# Altium integrated library TI Power Management Lighting and Display.IntLib: 745 symbols (part 14 of 48)
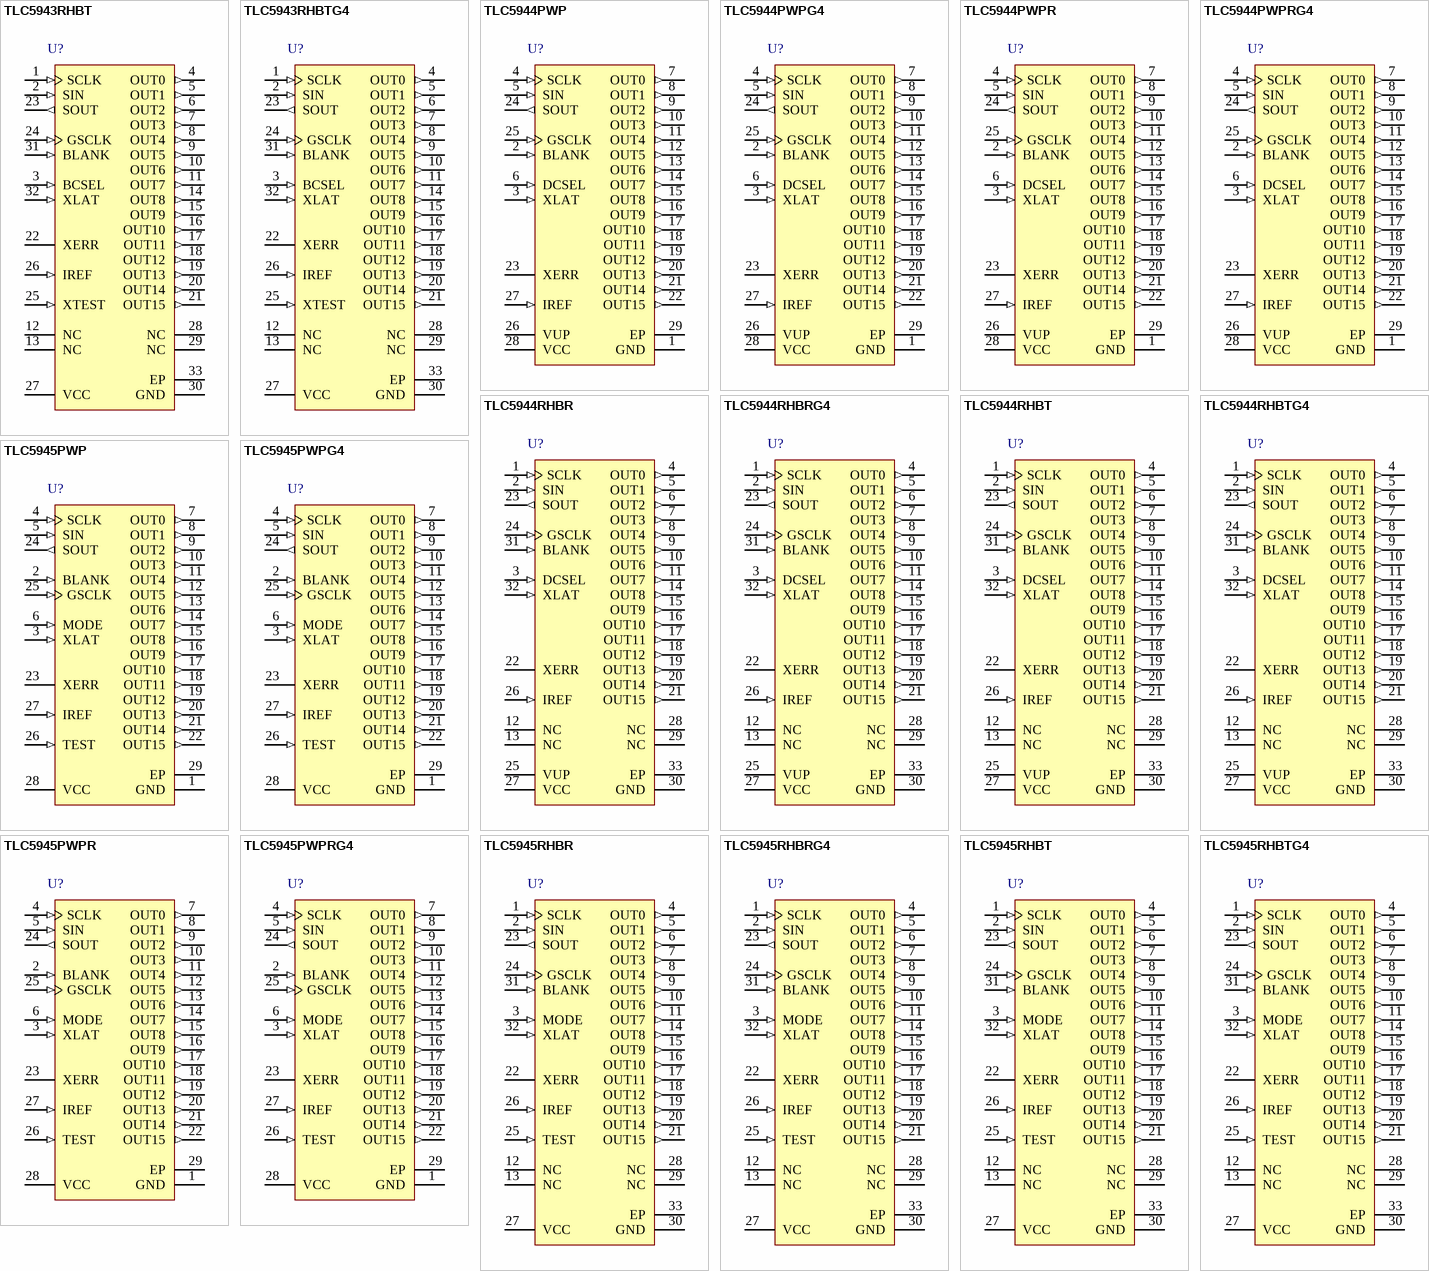
[diagram p44: symbols TLC5943RHBT to TLC5945RHBTG4]

## TLC5943RHBT
designator U?
16-Bit ES-PWM with 7-Bit Device Level Brightness Control, 3 to 5.5 V, -40 to 85 degC, 32-pin QFN (RHB32), Green (RoHS & no Sb/Br); Manufacturer: Texas Instruments; PartNumber: TLC5943RHBT; Rating: Catalog; SubFamily: LED Driver; Vin(Max)(V): 5.5; Vin(Min)(V): 3; DatasheetVersion: SBVS101; PackageVersion: 4204326/D; PackageReference: RHB32-3450X3450TP; PackageDescription: 32-Pin Plastic Flat Pack, Body 5 x 5 mm, Pitch 0.5 mm; Supplier 1: Digi-Key; Supplier Part Number 1: 296-32362-2-ND; Supplier 2: Digi-Key; Supplier Part Number 2: 296-32362-1-ND; Supplier 3: Digi-Key; Supplier Part Number 3: 296-32362-6-ND; Supplier 4: Mouser; Supplier Part Number 4: 595-TLC5943RHBT; Eco-Plan: Green (RoHS & no Sb/Br); Mounting Technology: Surface Mount; Code_JEDEC: MO-220; ComponentLink1Description: Manufacturer URL; ComponentLink1URL: http://www.ti.com/; ComponentLink2Description: Datasheet; ComponentLink2URL: http://www.ti.com/general/docs/lit/getliterature.tsp?genericPartNumber=TLC5943&fileType=pdf; ComponentLink3Description: Package Specification; ComponentLink3URL: http://www.ti.com/lit/ml/mpqf130c/mpqf130c.pdf
footprint TI-RHB32-3450X3450TP_V (QFN, 32-Leads, Body 5x5mm, Pitch 0.5mm, Thermal Pad 3.45x3.45mm)
pins: 1 SCLK (in) "Serial data shift clock for GS shift register and BC shift register. Schmitt buffer input. The shift register is selected by BCSEL. Data present on the SIN pin are shifted into the shift register selected by BCSEL with the (See Datasheet)", 2 SIN (in) "Serial data input for grayscale and brightness control data. Schmitt buffer input.", 3 BCSEL (in) "Shift register and data latch select. Schmitt buffer input. When BCSEL is low, Grayscale shift register and first data latch are selected. When BCSEL is high, Brightness Control shift register and first data latch are (See Datasheet)", 4 OUT0 (out) "Constant current output.", 5 OUT1 (out) "Constant current output.", 6 OUT2 (out) "Constant current output.", 7 OUT3 (out) "Constant current output.", 8 OUT4 (out) "Constant current output.", 9 OUT5 (out) "Constant current output.", 10 OUT6 (out) "Constant current output.", 11 OUT7 (out) "Constant current output.", 12 NC "No internal connection", 13 NC "No internal connection", 14 OUT8 (out) "Constant current output.", 15 OUT9 (out) "Constant current output.", 16 OUT10 (out) "Constant current output.", 17 OUT11 (out) "Constant current output.", 18 OUT12 (out) "Constant current output.", 19 OUT13 (out) "Constant current output.", 20 OUT14 (out) "Constant current output.", 21 OUT15 (out) "Constant current output.", 22 XERR (hiz) "Error output. Open-drain output. XERR goes low when LOD or TEF is detected.", 23 SOUT (out) "Serial data output. This output is connected to Grayscale/Status Information shift register or Brightness Control shift register. The connected register is selected by BCSEL.", 24 GSCLK (in) "Reference clock for Grayscale PWM control. Schmitt buffer input. If BLANK is low, then each rising edge of GSCLK increments the grayscale counter for PWM control.", 25 XTEST (in) "Factory test pin. XTEST must be connected to VCC or GND.", 26 IREF (in) "Constant current value setting. OUT0 through OUT15 sink constant current is set to desired value by connecting an external resistor between IREF and GND.", 27 VCC (power) "Power-supply voltage", 28 NC "No internal connection", 29 NC "No internal connection", 30 GND (power) "Power ground", 31 BLANK (in) "Blank (all constant current outputs off). Schmitt buffer input. When BLANK is high, all constant current outputs (OUT0 through OUT15) are forced off, the Grayscale counter is reset to '0', and the Grayscale PWM timing (See Datasheet)", 32 XLAT (in) "Data in the Grayscale and Brightness shift register are moved to the respective first data latch with a low-to-high transition of this pin.", 33 EP "Exposed Thermal Pad"

## TLC5943RHBTG4
designator U?
16-Bit ES-PWM with 7-Bit Device Level Brightness Control, 3 to 5.5 V, -40 to 85 degC, 32-pin QFN (RHB32), Green (RoHS & no Sb/Br); Manufacturer: Texas Instruments; PartNumber: TLC5943RHBTG4; Rating: Catalog; SubFamily: LED Driver; Vin(Max)(V): 5.5; Vin(Min)(V): 3; DatasheetVersion: SBVS101; PackageVersion: 4204326/D; PackageReference: RHB32-3450X3450TP; PackageDescription: 32-Pin Plastic Flat Pack, Body 5 x 5 mm, Pitch 0.5 mm; Supplier 1: Digi-Key; Supplier Part Number 1: TLC5943RHBTG4-ND; Supplier 2: Mouser; Supplier Part Number 2: 595-TLC5943RHBTG4; Eco-Plan: Green (RoHS & no Sb/Br); Mounting Technology: Surface Mount; Code_JEDEC: MO-220; ComponentLink1Description: Manufacturer URL; ComponentLink1URL: http://www.ti.com/; ComponentLink2Description: Datasheet; ComponentLink2URL: http://www.ti.com/general/docs/lit/getliterature.tsp?genericPartNumber=TLC5943&fileType=pdf; ComponentLink3Description: Package Specification; ComponentLink3URL: http://www.ti.com/lit/ml/mpqf130c/mpqf130c.pdf
footprint TI-RHB32-3450X3450TP_V (QFN, 32-Leads, Body 5x5mm, Pitch 0.5mm, Thermal Pad 3.45x3.45mm)
pins: 1 SCLK (in) "Serial data shift clock for GS shift register and BC shift register. Schmitt buffer input. The shift register is selected by BCSEL. Data present on the SIN pin are shifted into the shift register selected by BCSEL with the (See Datasheet)", 2 SIN (in) "Serial data input for grayscale and brightness control data. Schmitt buffer input.", 3 BCSEL (in) "Shift register and data latch select. Schmitt buffer input. When BCSEL is low, Grayscale shift register and first data latch are selected. When BCSEL is high, Brightness Control shift register and first data latch are (See Datasheet)", 4 OUT0 (out) "Constant current output.", 5 OUT1 (out) "Constant current output.", 6 OUT2 (out) "Constant current output.", 7 OUT3 (out) "Constant current output.", 8 OUT4 (out) "Constant current output.", 9 OUT5 (out) "Constant current output.", 10 OUT6 (out) "Constant current output.", 11 OUT7 (out) "Constant current output.", 12 NC "No internal connection", 13 NC "No internal connection", 14 OUT8 (out) "Constant current output.", 15 OUT9 (out) "Constant current output.", 16 OUT10 (out) "Constant current output.", 17 OUT11 (out) "Constant current output.", 18 OUT12 (out) "Constant current output.", 19 OUT13 (out) "Constant current output.", 20 OUT14 (out) "Constant current output.", 21 OUT15 (out) "Constant current output.", 22 XERR (hiz) "Error output. Open-drain output. XERR goes low when LOD or TEF is detected.", 23 SOUT (out) "Serial data output. This output is connected to Grayscale/Status Information shift register or Brightness Control shift register. The connected register is selected by BCSEL.", 24 GSCLK (in) "Reference clock for Grayscale PWM control. Schmitt buffer input. If BLANK is low, then each rising edge of GSCLK increments the grayscale counter for PWM control.", 25 XTEST (in) "Factory test pin. XTEST must be connected to VCC or GND.", 26 IREF (in) "Constant current value setting. OUT0 through OUT15 sink constant current is set to desired value by connecting an external resistor between IREF and GND.", 27 VCC (power) "Power-supply voltage", 28 NC "No internal connection", 29 NC "No internal connection", 30 GND (power) "Power ground", 31 BLANK (in) "Blank (all constant current outputs off). Schmitt buffer input. When BLANK is high, all constant current outputs (OUT0 through OUT15) are forced off, the Grayscale counter is reset to '0', and the Grayscale PWM timing (See Datasheet)", 32 XLAT (in) "Data in the Grayscale and Brightness shift register are moved to the respective first data latch with a low-to-high transition of this pin.", 33 EP "Exposed Thermal Pad"

## TLC5944PWP
designator U?
16-Channel, 12-Bit PWM LED Driver with 6-Bit DOT Correction and Pre-Charge FET, 3 to 5.5 V, -40 to 85 degC, 28-pin SOP (PWP28), Green (RoHS & no Sb/Br); Manufacturer: Texas Instruments; PartNumber: TLC5944PWP; Rating: Catalog; Vin(Max)(V): 5.5; Vin(Min)(V): 3; DatasheetVersion: SBVS112A; PackageVersion: 4073225-6/I; PackageReference: PWP28-5720X1950TP; PackageDescription: 28-Pin Plastic Small Outline, Body 4.4 x 9.7 mm, Pitch 0.65 mm; Supplier 1: Digi-Key; Supplier Part Number 1: TLC5944PWP-ND; Supplier 2: Newark; Supplier Part Number 2: 03P5008; Supplier 3: Mouser; Supplier Part Number 3: 595-TLC5944PWP; Eco-Plan: Green (RoHS & no Sb/Br); SubFamily: LED Driver; Mounting Technology: Surface Mount; Code_JEDEC: MO-153; ComponentLink1Description: Manufacturer URL; ComponentLink1URL: http://www.ti.com/; ComponentLink2Description: Datasheet; ComponentLink2URL: http://www.ti.com/general/docs/lit/getliterature.tsp?genericPartNumber=TLC5944&fileType=pdf; ComponentLink3Description: Package Specification; ComponentLink3URL: http://www.ti.com/litv/pdf/mpds373
footprint TI-PWP28-5720X1950TP_N (SOP, 28-Leads, Body 9.7x4.4mm, Pitch 0.65mm, Thermal Pad 5.72 x 1.95mm, IPC Medium Density)
footprint TI-PWP28-5720X1950TP_L (SOP, 28-Leads, Body 9.7x4.4mm, Pitch 0.65mm, Thermal Pad 5.72 x 1.95mm, IPC High Density)
footprint TI-PWP28-5720X1950TP_M (SOP, 28-Leads, Body 9.7x4.4mm, Pitch 0.65mm, Thermal Pad 5.72 x 1.95mm, IPC Low Density)
pins: 1 GND (power) "Power ground", 2 BLANK (in) "Blank (all constant current outputs off). When BLANK is high, all constant current outputs (OUT0 through OUT15) are forced off, the grayscale counter is reset to '0', and the grayscale PWM timing controller is initialized. (See Datasheet)", 3 XLAT (in) "Data in the GS and DC shift register are moved to the respective data latch with a low-to-high transition of this pin.", 4 SCLK (in) "Serial data shift clock for GS shift register and DC shift register. Schmitt buffer input. The shift register is selected by the DCSEL pin. Data present on the SIN pin are shifted into the shift register selected by DCSEL (See Datasheet)", 5 SIN (in) "Serial data input for grayscale and dot correction.", 6 DCSEL (in) "Shift register and data latch select. When DCSEL is low, SCLK/XLAT/SOUT are connected to the GS shift register and data latch. When DCSEL is high, SCLK/XLAT/SOUT are connected to the DC shift register and data latch. DCSEL (See Datasheet)", 7 OUT0 (out) "Constant current output", 8 OUT1 (out) "Constant current output", 9 OUT2 (out) "Constant current output", 10 OUT3 (out) "Constant current output", 11 OUT4 (out) "Constant current output", 12 OUT5 (out) "Constant current output", 13 OUT6 (out) "Constant current output", 14 OUT7 (out) "Constant current output", 15 OUT8 (out) "Constant current output", 16 OUT9 (out) "Constant current output", 17 OUT10 (out) "Constant current output", 18 OUT11 (out) "Constant current output", 19 OUT12 (out) "Constant current output", 20 OUT13 (out) "Constant current output", 21 OUT14 (out) "Constant current output", 22 OUT15 (out) "Constant current output", 23 XERR (hiz) "Error output. Open-drain output. XERR goes low when LOD or TEF are set. XERR is in high impedance when error free.", 24 SOUT (out) "Serial data output for GS, DC, and status information data (SID). This output is connected to the MSB of the shift register selected by DCSEL.", 25 GSCLK (in) "Reference clock for grayscale PWM control. If BLANK is low, then each rising edge of GSCLK increments the grayscale counter for PWM control.", 26 VUP (power) "Pre-charge FET power supply", 27 IREF (in) "Constant current value setting. OUT0 through OUT15 sink constant current is set to the desired value by connecting an external resistor between IREF and GND.", 28 VCC (power) "Power-supply voltage", 29 EP "Thermal PAD."

## TLC5944PWPG4
designator U?
16-Channel, 12-Bit PWM LED Driver with 6-Bit DOT Correction and Pre-Charge FET, 3 to 5.5 V, -40 to 85 degC, 28-pin SOP (PWP28), Green (RoHS & no Sb/Br); Manufacturer: Texas Instruments; PartNumber: TLC5944PWPG4; Rating: Catalog; Vin(Max)(V): 5.5; Vin(Min)(V): 3; DatasheetVersion: SBVS112A; PackageVersion: 4073225-6/I; PackageReference: PWP28-5720X1950TP; PackageDescription: 28-Pin Plastic Small Outline, Body 4.4 x 9.7 mm, Pitch 0.65 mm; Supplier 1: Digi-Key; Supplier Part Number 1: TLC5944PWPG4-ND; Supplier 2: Mouser; Supplier Part Number 2: 595-TLC5944PWPG4; Eco-Plan: Green (RoHS & no Sb/Br); SubFamily: LED Driver; Mounting Technology: Surface Mount; Code_JEDEC: MO-153; ComponentLink1Description: Manufacturer URL; ComponentLink1URL: http://www.ti.com/; ComponentLink2Description: Datasheet; ComponentLink2URL: http://www.ti.com/general/docs/lit/getliterature.tsp?genericPartNumber=TLC5944&fileType=pdf; ComponentLink3Description: Package Specification; ComponentLink3URL: http://www.ti.com/litv/pdf/mpds373
footprint TI-PWP28-5720X1950TP_N (SOP, 28-Leads, Body 9.7x4.4mm, Pitch 0.65mm, Thermal Pad 5.72 x 1.95mm, IPC Medium Density)
footprint TI-PWP28-5720X1950TP_L (SOP, 28-Leads, Body 9.7x4.4mm, Pitch 0.65mm, Thermal Pad 5.72 x 1.95mm, IPC High Density)
footprint TI-PWP28-5720X1950TP_M (SOP, 28-Leads, Body 9.7x4.4mm, Pitch 0.65mm, Thermal Pad 5.72 x 1.95mm, IPC Low Density)
pins: 1 GND (power) "Power ground", 2 BLANK (in) "Blank (all constant current outputs off). When BLANK is high, all constant current outputs (OUT0 through OUT15) are forced off, the grayscale counter is reset to '0', and the grayscale PWM timing controller is initialized. (See Datasheet)", 3 XLAT (in) "Data in the GS and DC shift register are moved to the respective data latch with a low-to-high transition of this pin.", 4 SCLK (in) "Serial data shift clock for GS shift register and DC shift register. Schmitt buffer input. The shift register is selected by the DCSEL pin. Data present on the SIN pin are shifted into the shift register selected by DCSEL (See Datasheet)", 5 SIN (in) "Serial data input for grayscale and dot correction.", 6 DCSEL (in) "Shift register and data latch select. When DCSEL is low, SCLK/XLAT/SOUT are connected to the GS shift register and data latch. When DCSEL is high, SCLK/XLAT/SOUT are connected to the DC shift register and data latch. DCSEL (See Datasheet)", 7 OUT0 (out) "Constant current output", 8 OUT1 (out) "Constant current output", 9 OUT2 (out) "Constant current output", 10 OUT3 (out) "Constant current output", 11 OUT4 (out) "Constant current output", 12 OUT5 (out) "Constant current output", 13 OUT6 (out) "Constant current output", 14 OUT7 (out) "Constant current output", 15 OUT8 (out) "Constant current output", 16 OUT9 (out) "Constant current output", 17 OUT10 (out) "Constant current output", 18 OUT11 (out) "Constant current output", 19 OUT12 (out) "Constant current output", 20 OUT13 (out) "Constant current output", 21 OUT14 (out) "Constant current output", 22 OUT15 (out) "Constant current output", 23 XERR (hiz) "Error output. Open-drain output. XERR goes low when LOD or TEF are set. XERR is in high impedance when error free.", 24 SOUT (out) "Serial data output for GS, DC, and status information data (SID). This output is connected to the MSB of the shift register selected by DCSEL.", 25 GSCLK (in) "Reference clock for grayscale PWM control. If BLANK is low, then each rising edge of GSCLK increments the grayscale counter for PWM control.", 26 VUP (power) "Pre-charge FET power supply", 27 IREF (in) "Constant current value setting. OUT0 through OUT15 sink constant current is set to the desired value by connecting an external resistor between IREF and GND.", 28 VCC (power) "Power-supply voltage", 29 EP "Thermal PAD."

## TLC5944PWPR
designator U?
16-Channel, 12-Bit PWM LED Driver with 6-Bit DOT Correction and Pre-Charge FET, 3 to 5.5 V, -40 to 85 degC, 28-pin SOP (PWP28), Green (RoHS & no Sb/Br); Manufacturer: Texas Instruments; PartNumber: TLC5944PWPR; Rating: Catalog; Vin(Max)(V): 5.5; Vin(Min)(V): 3; DatasheetVersion: SBVS112A; PackageVersion: 4073225-6/I; PackageReference: PWP28-5720X1950TP; PackageDescription: 28-Pin Plastic Small Outline, Body 4.4 x 9.7 mm, Pitch 0.65 mm; Supplier 1: Digi-Key; Supplier Part Number 1: 296-23537-2-ND; Supplier 2: Digi-Key; Supplier Part Number 2: 296-23537-1-ND; Supplier 3: Digi-Key; Supplier Part Number 3: 296-23537-6-ND; Supplier 4: Newark; Supplier Part Number 4: 14N4061; Supplier 5: Mouser; Supplier Part Number 5: 595-TLC5944PWPR; Eco-Plan: Green (RoHS & no Sb/Br); SubFamily: LED Driver; Mounting Technology: Surface Mount; Code_JEDEC: MO-153; ComponentLink1Description: Manufacturer URL; ComponentLink1URL: http://www.ti.com/; ComponentLink2Description: Datasheet; ComponentLink2URL: http://www.ti.com/general/docs/lit/getliterature.tsp?genericPartNumber=TLC5944&fileType=pdf; ComponentLink3Description: Package Specification; ComponentLink3URL: http://www.ti.com/litv/pdf/mpds373
footprint TI-PWP28-5720X1950TP_N (SOP, 28-Leads, Body 9.7x4.4mm, Pitch 0.65mm, Thermal Pad 5.72 x 1.95mm, IPC Medium Density)
footprint TI-PWP28-5720X1950TP_L (SOP, 28-Leads, Body 9.7x4.4mm, Pitch 0.65mm, Thermal Pad 5.72 x 1.95mm, IPC High Density)
footprint TI-PWP28-5720X1950TP_M (SOP, 28-Leads, Body 9.7x4.4mm, Pitch 0.65mm, Thermal Pad 5.72 x 1.95mm, IPC Low Density)
pins: 1 GND (power) "Power ground", 2 BLANK (in) "Blank (all constant current outputs off). When BLANK is high, all constant current outputs (OUT0 through OUT15) are forced off, the grayscale counter is reset to '0', and the grayscale PWM timing controller is initialized. (See Datasheet)", 3 XLAT (in) "Data in the GS and DC shift register are moved to the respective data latch with a low-to-high transition of this pin.", 4 SCLK (in) "Serial data shift clock for GS shift register and DC shift register. Schmitt buffer input. The shift register is selected by the DCSEL pin. Data present on the SIN pin are shifted into the shift register selected by DCSEL (See Datasheet)", 5 SIN (in) "Serial data input for grayscale and dot correction.", 6 DCSEL (in) "Shift register and data latch select. When DCSEL is low, SCLK/XLAT/SOUT are connected to the GS shift register and data latch. When DCSEL is high, SCLK/XLAT/SOUT are connected to the DC shift register and data latch. DCSEL (See Datasheet)", 7 OUT0 (out) "Constant current output", 8 OUT1 (out) "Constant current output", 9 OUT2 (out) "Constant current output", 10 OUT3 (out) "Constant current output", 11 OUT4 (out) "Constant current output", 12 OUT5 (out) "Constant current output", 13 OUT6 (out) "Constant current output", 14 OUT7 (out) "Constant current output", 15 OUT8 (out) "Constant current output", 16 OUT9 (out) "Constant current output", 17 OUT10 (out) "Constant current output", 18 OUT11 (out) "Constant current output", 19 OUT12 (out) "Constant current output", 20 OUT13 (out) "Constant current output", 21 OUT14 (out) "Constant current output", 22 OUT15 (out) "Constant current output", 23 XERR (hiz) "Error output. Open-drain output. XERR goes low when LOD or TEF are set. XERR is in high impedance when error free.", 24 SOUT (out) "Serial data output for GS, DC, and status information data (SID). This output is connected to the MSB of the shift register selected by DCSEL.", 25 GSCLK (in) "Reference clock for grayscale PWM control. If BLANK is low, then each rising edge of GSCLK increments the grayscale counter for PWM control.", 26 VUP (power) "Pre-charge FET power supply", 27 IREF (in) "Constant current value setting. OUT0 through OUT15 sink constant current is set to the desired value by connecting an external resistor between IREF and GND.", 28 VCC (power) "Power-supply voltage", 29 EP "Thermal PAD."

## TLC5944PWPRG4
designator U?
16-Channel, 12-Bit PWM LED Driver with 6-Bit DOT Correction and Pre-Charge FET, 3 to 5.5 V, -40 to 85 degC, 28-pin SOP (PWP28), Green (RoHS & no Sb/Br); Manufacturer: Texas Instruments; PartNumber: TLC5944PWPRG4; Rating: Catalog; Vin(Max)(V): 5.5; Vin(Min)(V): 3; DatasheetVersion: SBVS112A; PackageVersion: 4073225-6/I; PackageReference: PWP28-5720X1950TP; PackageDescription: 28-Pin Plastic Small Outline, Body 4.4 x 9.7 mm, Pitch 0.65 mm; Supplier 1: Digi-Key; Supplier Part Number 1: TLC5944PWPRG4-ND; Supplier 2: Mouser; Supplier Part Number 2: 595-TLC5944PWPRG4; Eco-Plan: Green (RoHS & no Sb/Br); SubFamily: LED Driver; Mounting Technology: Surface Mount; Code_JEDEC: MO-153; ComponentLink1Description: Manufacturer URL; ComponentLink1URL: http://www.ti.com/; ComponentLink2Description: Datasheet; ComponentLink2URL: http://www.ti.com/general/docs/lit/getliterature.tsp?genericPartNumber=TLC5944&fileType=pdf; ComponentLink3Description: Package Specification; ComponentLink3URL: http://www.ti.com/litv/pdf/mpds373
footprint TI-PWP28-5720X1950TP_N (SOP, 28-Leads, Body 9.7x4.4mm, Pitch 0.65mm, Thermal Pad 5.72 x 1.95mm, IPC Medium Density)
footprint TI-PWP28-5720X1950TP_L (SOP, 28-Leads, Body 9.7x4.4mm, Pitch 0.65mm, Thermal Pad 5.72 x 1.95mm, IPC High Density)
footprint TI-PWP28-5720X1950TP_M (SOP, 28-Leads, Body 9.7x4.4mm, Pitch 0.65mm, Thermal Pad 5.72 x 1.95mm, IPC Low Density)
pins: 1 GND (power) "Power ground", 2 BLANK (in) "Blank (all constant current outputs off). When BLANK is high, all constant current outputs (OUT0 through OUT15) are forced off, the grayscale counter is reset to '0', and the grayscale PWM timing controller is initialized. (See Datasheet)", 3 XLAT (in) "Data in the GS and DC shift register are moved to the respective data latch with a low-to-high transition of this pin.", 4 SCLK (in) "Serial data shift clock for GS shift register and DC shift register. Schmitt buffer input. The shift register is selected by the DCSEL pin. Data present on the SIN pin are shifted into the shift register selected by DCSEL (See Datasheet)", 5 SIN (in) "Serial data input for grayscale and dot correction.", 6 DCSEL (in) "Shift register and data latch select. When DCSEL is low, SCLK/XLAT/SOUT are connected to the GS shift register and data latch. When DCSEL is high, SCLK/XLAT/SOUT are connected to the DC shift register and data latch. DCSEL (See Datasheet)", 7 OUT0 (out) "Constant current output", 8 OUT1 (out) "Constant current output", 9 OUT2 (out) "Constant current output", 10 OUT3 (out) "Constant current output", 11 OUT4 (out) "Constant current output", 12 OUT5 (out) "Constant current output", 13 OUT6 (out) "Constant current output", 14 OUT7 (out) "Constant current output", 15 OUT8 (out) "Constant current output", 16 OUT9 (out) "Constant current output", 17 OUT10 (out) "Constant current output", 18 OUT11 (out) "Constant current output", 19 OUT12 (out) "Constant current output", 20 OUT13 (out) "Constant current output", 21 OUT14 (out) "Constant current output", 22 OUT15 (out) "Constant current output", 23 XERR (hiz) "Error output. Open-drain output. XERR goes low when LOD or TEF are set. XERR is in high impedance when error free.", 24 SOUT (out) "Serial data output for GS, DC, and status information data (SID). This output is connected to the MSB of the shift register selected by DCSEL.", 25 GSCLK (in) "Reference clock for grayscale PWM control. If BLANK is low, then each rising edge of GSCLK increments the grayscale counter for PWM control.", 26 VUP (power) "Pre-charge FET power supply", 27 IREF (in) "Constant current value setting. OUT0 through OUT15 sink constant current is set to the desired value by connecting an external resistor between IREF and GND.", 28 VCC (power) "Power-supply voltage", 29 EP "Thermal PAD."

## TLC5944RHBR
designator U?
16-Channel, 12-Bit PWM LED Driver with 6-Bit DOT Correction and Pre-Charge FET, 3 to 5.5 V, -40 to 85 degC, 32-pin QFN (RHB32), Green (RoHS & no Sb/Br); Manufacturer: Texas Instruments; PartNumber: TLC5944RHBR; Rating: Catalog; Vin(Max)(V): 5.5; Vin(Min)(V): 3; DatasheetVersion: SBVS112A; PackageVersion: 4204326/D; PackageReference: RHB32-3450X3450TP; PackageDescription: 32-Pin Plastic Flat Pack, Body 5 x 5 mm, Pitch 0.5 mm; Supplier 1: Digi-Key; Supplier Part Number 1: TLC5944RHBR-ND; Supplier 2: Mouser; Supplier Part Number 2: 595-TLC5944RHBR; Eco-Plan: Green (RoHS & no Sb/Br); SubFamily: LED Driver; Mounting Technology: Surface Mount; Code_JEDEC: MO-220; ComponentLink1Description: Manufacturer URL; ComponentLink1URL: http://www.ti.com/; ComponentLink2Description: Datasheet; ComponentLink2URL: http://www.ti.com/general/docs/lit/getliterature.tsp?genericPartNumber=TLC5944&fileType=pdf; ComponentLink3Description: Package Specification; ComponentLink3URL: http://www.ti.com/lit/ml/mpqf130c/mpqf130c.pdf
footprint TI-RHB32-3450X3450TP_V (QFN, 32-Leads, Body 5x5mm, Pitch 0.5mm, Thermal Pad 3.45x3.45mm)
pins: 1 SCLK (in) "Serial data shift clock for GS shift register and DC shift register. Schmitt buffer input. The shift register is selected by the DCSEL pin. Data present on the SIN pin are shifted into the shift register selected by DCSEL (See Datasheet)", 2 SIN (in) "Serial data input for grayscale and dot correction.", 3 DCSEL (in) "Shift register and data latch select. When DCSEL is low, SCLK/XLAT/SOUT are connected to the GS shift register and data latch. When DCSEL is high, SCLK/XLAT/SOUT are connected to the DC shift register and data latch. DCSEL (See Datasheet)", 4 OUT0 (out) "Constant current output", 5 OUT1 (out) "Constant current output", 6 OUT2 (out) "Constant current output", 7 OUT3 (out) "Constant current output", 8 OUT4 (out) "Constant current output", 9 OUT5 (out) "Constant current output", 10 OUT6 (out) "Constant current output", 11 OUT7 (out) "Constant current output", 12 NC "No internal connection", 13 NC "No internal connection", 14 OUT8 (out) "Constant current output", 15 OUT9 (out) "Constant current output", 16 OUT10 (out) "Constant current output", 17 OUT11 (out) "Constant current output", 18 OUT12 (out) "Constant current output", 19 OUT13 (out) "Constant current output", 20 OUT14 (out) "Constant current output", 21 OUT15 (out) "Constant current output", 22 XERR (hiz) "Error output. Open-drain output. XERR goes low when LOD or TEF are set. XERR is in high impedance when error free.", 23 SOUT (out) "Serial data output for GS, DC, and status information data (SID). This output is connected to the MSB of the shift register selected by DCSEL.", 24 GSCLK (in) "Reference clock for grayscale PWM control. If BLANK is low, then each rising edge of GSCLK increments the grayscale counter for PWM control.", 25 VUP (power) "Pre-charge FET power supply", 26 IREF (in) "Constant current value setting. OUT0 through OUT15 sink constant current is set to the desired value by connecting an external resistor between IREF and GND.", 27 VCC (power) "Power-supply voltage", 28 NC "No internal connection", 29 NC "No internal connection", 30 GND (power) "Power ground", 31 BLANK (in) "Blank (all constant current outputs off). When BLANK is high, all constant current outputs (OUT0 through OUT15) are forced off, the grayscale counter is reset to '0', and the grayscale PWM timing controller is initialized. (See Datasheet)", 32 XLAT (in) "Data in the GS and DC shift register are moved to the respective data latch with a low-to-high transition of this pin.", 33 EP (power) "Thermal PAD."

## TLC5944RHBRG4
designator U?
16-Channel, 12-Bit PWM LED Driver with 6-Bit DOT Correction and Pre-Charge FET, 3 to 5.5 V, -40 to 85 degC, 32-pin QFN (RHB32), Green (RoHS & no Sb/Br); Manufacturer: Texas Instruments; PartNumber: TLC5944RHBRG4; Rating: Catalog; Vin(Max)(V): 5.5; Vin(Min)(V): 3; DatasheetVersion: SBVS112A; PackageVersion: 4204326/D; PackageReference: RHB32-3450X3450TP; PackageDescription: 32-Pin Plastic Flat Pack, Body 5 x 5 mm, Pitch 0.5 mm; Supplier 1: Digi-Key; Supplier Part Number 1: TLC5944RHBRG4-ND; Supplier 2: Mouser; Supplier Part Number 2: 595-TLC5944RHBRG4; Eco-Plan: Green (RoHS & no Sb/Br); SubFamily: LED Driver; Mounting Technology: Surface Mount; Code_JEDEC: MO-220; ComponentLink1Description: Manufacturer URL; ComponentLink1URL: http://www.ti.com/; ComponentLink2Description: Datasheet; ComponentLink2URL: http://www.ti.com/general/docs/lit/getliterature.tsp?genericPartNumber=TLC5944&fileType=pdf; ComponentLink3Description: Package Specification; ComponentLink3URL: http://www.ti.com/lit/ml/mpqf130c/mpqf130c.pdf
footprint TI-RHB32-3450X3450TP_V (QFN, 32-Leads, Body 5x5mm, Pitch 0.5mm, Thermal Pad 3.45x3.45mm)
pins: 1 SCLK (in) "Serial data shift clock for GS shift register and DC shift register. Schmitt buffer input. The shift register is selected by the DCSEL pin. Data present on the SIN pin are shifted into the shift register selected by DCSEL (See Datasheet)", 2 SIN (in) "Serial data input for grayscale and dot correction.", 3 DCSEL (in) "Shift register and data latch select. When DCSEL is low, SCLK/XLAT/SOUT are connected to the GS shift register and data latch. When DCSEL is high, SCLK/XLAT/SOUT are connected to the DC shift register and data latch. DCSEL (See Datasheet)", 4 OUT0 (out) "Constant current output", 5 OUT1 (out) "Constant current output", 6 OUT2 (out) "Constant current output", 7 OUT3 (out) "Constant current output", 8 OUT4 (out) "Constant current output", 9 OUT5 (out) "Constant current output", 10 OUT6 (out) "Constant current output", 11 OUT7 (out) "Constant current output", 12 NC "No internal connection", 13 NC "No internal connection", 14 OUT8 (out) "Constant current output", 15 OUT9 (out) "Constant current output", 16 OUT10 (out) "Constant current output", 17 OUT11 (out) "Constant current output", 18 OUT12 (out) "Constant current output", 19 OUT13 (out) "Constant current output", 20 OUT14 (out) "Constant current output", 21 OUT15 (out) "Constant current output", 22 XERR (hiz) "Error output. Open-drain output. XERR goes low when LOD or TEF are set. XERR is in high impedance when error free.", 23 SOUT (out) "Serial data output for GS, DC, and status information data (SID). This output is connected to the MSB of the shift register selected by DCSEL.", 24 GSCLK (in) "Reference clock for grayscale PWM control. If BLANK is low, then each rising edge of GSCLK increments the grayscale counter for PWM control.", 25 VUP (power) "Pre-charge FET power supply", 26 IREF (in) "Constant current value setting. OUT0 through OUT15 sink constant current is set to the desired value by connecting an external resistor between IREF and GND.", 27 VCC (power) "Power-supply voltage", 28 NC "No internal connection", 29 NC "No internal connection", 30 GND (power) "Power ground", 31 BLANK (in) "Blank (all constant current outputs off). When BLANK is high, all constant current outputs (OUT0 through OUT15) are forced off, the grayscale counter is reset to '0', and the grayscale PWM timing controller is initialized. (See Datasheet)", 32 XLAT (in) "Data in the GS and DC shift register are moved to the respective data latch with a low-to-high transition of this pin.", 33 EP (power) "Thermal PAD."

## TLC5944RHBT
designator U?
16-Channel, 12-Bit PWM LED Driver with 6-Bit DOT Correction and Pre-Charge FET, 3 to 5.5 V, -40 to 85 degC, 32-pin QFN (RHB32), Green (RoHS & no Sb/Br); Manufacturer: Texas Instruments; PartNumber: TLC5944RHBT; Rating: Catalog; Vin(Max)(V): 5.5; Vin(Min)(V): 3; DatasheetVersion: SBVS112A; PackageVersion: 4204326/D; PackageReference: RHB32-3450X3450TP; PackageDescription: 32-Pin Plastic Flat Pack, Body 5 x 5 mm, Pitch 0.5 mm; Supplier 1: Digi-Key; Supplier Part Number 1: 296-23538-2-ND; Supplier 2: Digi-Key; Supplier Part Number 2: 296-23538-1-ND; Supplier 3: Digi-Key; Supplier Part Number 3: 296-23538-6-ND; Supplier 4: Newark; Supplier Part Number 4: 14N4062; Supplier 5: Mouser; Supplier Part Number 5: 595-TLC5944RHBT; Eco-Plan: Green (RoHS & no Sb/Br); SubFamily: LED Driver; Mounting Technology: Surface Mount; Code_JEDEC: MO-220; ComponentLink1Description: Manufacturer URL; ComponentLink1URL: http://www.ti.com/; ComponentLink2Description: Datasheet; ComponentLink2URL: http://www.ti.com/general/docs/lit/getliterature.tsp?genericPartNumber=TLC5944&fileType=pdf; ComponentLink3Description: Package Specification; ComponentLink3URL: http://www.ti.com/lit/ml/mpqf130c/mpqf130c.pdf
footprint TI-RHB32-3450X3450TP_V (QFN, 32-Leads, Body 5x5mm, Pitch 0.5mm, Thermal Pad 3.45x3.45mm)
pins: 1 SCLK (in) "Serial data shift clock for GS shift register and DC shift register. Schmitt buffer input. The shift register is selected by the DCSEL pin. Data present on the SIN pin are shifted into the shift register selected by DCSEL (See Datasheet)", 2 SIN (in) "Serial data input for grayscale and dot correction.", 3 DCSEL (in) "Shift register and data latch select. When DCSEL is low, SCLK/XLAT/SOUT are connected to the GS shift register and data latch. When DCSEL is high, SCLK/XLAT/SOUT are connected to the DC shift register and data latch. DCSEL (See Datasheet)", 4 OUT0 (out) "Constant current output", 5 OUT1 (out) "Constant current output", 6 OUT2 (out) "Constant current output", 7 OUT3 (out) "Constant current output", 8 OUT4 (out) "Constant current output", 9 OUT5 (out) "Constant current output", 10 OUT6 (out) "Constant current output", 11 OUT7 (out) "Constant current output", 12 NC "No internal connection", 13 NC "No internal connection", 14 OUT8 (out) "Constant current output", 15 OUT9 (out) "Constant current output", 16 OUT10 (out) "Constant current output", 17 OUT11 (out) "Constant current output", 18 OUT12 (out) "Constant current output", 19 OUT13 (out) "Constant current output", 20 OUT14 (out) "Constant current output", 21 OUT15 (out) "Constant current output", 22 XERR (hiz) "Error output. Open-drain output. XERR goes low when LOD or TEF are set. XERR is in high impedance when error free.", 23 SOUT (out) "Serial data output for GS, DC, and status information data (SID). This output is connected to the MSB of the shift register selected by DCSEL.", 24 GSCLK (in) "Reference clock for grayscale PWM control. If BLANK is low, then each rising edge of GSCLK increments the grayscale counter for PWM control.", 25 VUP (power) "Pre-charge FET power supply", 26 IREF (in) "Constant current value setting. OUT0 through OUT15 sink constant current is set to the desired value by connecting an external resistor between IREF and GND.", 27 VCC (power) "Power-supply voltage", 28 NC "No internal connection", 29 NC "No internal connection", 30 GND (power) "Power ground", 31 BLANK (in) "Blank (all constant current outputs off). When BLANK is high, all constant current outputs (OUT0 through OUT15) are forced off, the grayscale counter is reset to '0', and the grayscale PWM timing controller is initialized. (See Datasheet)", 32 XLAT (in) "Data in the GS and DC shift register are moved to the respective data latch with a low-to-high transition of this pin.", 33 EP (power) "Thermal PAD."

## TLC5944RHBTG4
designator U?
16-Channel, 12-Bit PWM LED Driver with 6-Bit DOT Correction and Pre-Charge FET, 3 to 5.5 V, -40 to 85 degC, 32-pin QFN (RHB32), Green (RoHS & no Sb/Br); Manufacturer: Texas Instruments; PartNumber: TLC5944RHBTG4; Rating: Catalog; Vin(Max)(V): 5.5; Vin(Min)(V): 3; DatasheetVersion: SBVS112A; PackageVersion: 4204326/D; PackageReference: RHB32-3450X3450TP; PackageDescription: 32-Pin Plastic Flat Pack, Body 5 x 5 mm, Pitch 0.5 mm; Supplier 1: Digi-Key; Supplier Part Number 1: TLC5944RHBTG4-ND; Supplier 2: Mouser; Supplier Part Number 2: 595-TLC5944RHBTG4; Eco-Plan: Green (RoHS & no Sb/Br); SubFamily: LED Driver; Mounting Technology: Surface Mount; Code_JEDEC: MO-220; ComponentLink1Description: Manufacturer URL; ComponentLink1URL: http://www.ti.com/; ComponentLink2Description: Datasheet; ComponentLink2URL: http://www.ti.com/general/docs/lit/getliterature.tsp?genericPartNumber=TLC5944&fileType=pdf; ComponentLink3Description: Package Specification; ComponentLink3URL: http://www.ti.com/lit/ml/mpqf130c/mpqf130c.pdf
footprint TI-RHB32-3450X3450TP_V (QFN, 32-Leads, Body 5x5mm, Pitch 0.5mm, Thermal Pad 3.45x3.45mm)
pins: 1 SCLK (in) "Serial data shift clock for GS shift register and DC shift register. Schmitt buffer input. The shift register is selected by the DCSEL pin. Data present on the SIN pin are shifted into the shift register selected by DCSEL (See Datasheet)", 2 SIN (in) "Serial data input for grayscale and dot correction.", 3 DCSEL (in) "Shift register and data latch select. When DCSEL is low, SCLK/XLAT/SOUT are connected to the GS shift register and data latch. When DCSEL is high, SCLK/XLAT/SOUT are connected to the DC shift register and data latch. DCSEL (See Datasheet)", 4 OUT0 (out) "Constant current output", 5 OUT1 (out) "Constant current output", 6 OUT2 (out) "Constant current output", 7 OUT3 (out) "Constant current output", 8 OUT4 (out) "Constant current output", 9 OUT5 (out) "Constant current output", 10 OUT6 (out) "Constant current output", 11 OUT7 (out) "Constant current output", 12 NC "No internal connection", 13 NC "No internal connection", 14 OUT8 (out) "Constant current output", 15 OUT9 (out) "Constant current output", 16 OUT10 (out) "Constant current output", 17 OUT11 (out) "Constant current output", 18 OUT12 (out) "Constant current output", 19 OUT13 (out) "Constant current output", 20 OUT14 (out) "Constant current output", 21 OUT15 (out) "Constant current output", 22 XERR (hiz) "Error output. Open-drain output. XERR goes low when LOD or TEF are set. XERR is in high impedance when error free.", 23 SOUT (out) "Serial data output for GS, DC, and status information data (SID). This output is connected to the MSB of the shift register selected by DCSEL.", 24 GSCLK (in) "Reference clock for grayscale PWM control. If BLANK is low, then each rising edge of GSCLK increments the grayscale counter for PWM control.", 25 VUP (power) "Pre-charge FET power supply", 26 IREF (in) "Constant current value setting. OUT0 through OUT15 sink constant current is set to the desired value by connecting an external resistor between IREF and GND.", 27 VCC (power) "Power-supply voltage", 28 NC "No internal connection", 29 NC "No internal connection", 30 GND (power) "Power ground", 31 BLANK (in) "Blank (all constant current outputs off). When BLANK is high, all constant current outputs (OUT0 through OUT15) are forced off, the grayscale counter is reset to '0', and the grayscale PWM timing controller is initialized. (See Datasheet)", 32 XLAT (in) "Data in the GS and DC shift register are moved to the respective data latch with a low-to-high transition of this pin.", 33 EP (power) "Thermal PAD."

## TLC5945PWP
designator U?
16-Channel LED Driver with DOT Correction & Grayscale PWM Control & No Delay, 3 to 5.5 V, -40 to 85 degC, 28-pin SOP (PWP28), Green (RoHS & no Sb/Br); Manufacturer: Texas Instruments; PartNumber: TLC5945PWP; Rating: Catalog; SubFamily: Signage/Linear; Vin(Max)(V): 5.5; Vin(Min)(V): 3; DatasheetVersion: SLVS755; PackageVersion: 4073225-6/I; PackageReference: PWP28-5720X1950TP; PackageDescription: 28-Pin Plastic Small Outline, Body 4.4 x 9.7 mm, Pitch 0.65 mm; Supplier 1: Digi-Key; Supplier Part Number 1: 296-34380-5-ND; Supplier 2: Farnell; Supplier Part Number 2: 1647810; Supplier 3: Newark; Supplier Part Number 3: 41M5430; Supplier 4: Mouser; Supplier Part Number 4: 595-TLC5945PWP; Eco-Plan: Green (RoHS & no Sb/Br); Mounting Technology: Surface Mount; Code_JEDEC: MO-153; ComponentLink1Description: Manufacturer URL; ComponentLink1URL: http://www.ti.com/; ComponentLink2Description: Datasheet; ComponentLink2URL: http://www.ti.com/general/docs/lit/getliterature.tsp?genericPartNumber=TLC5945&fileType=pdf; ComponentLink3Description: Package Specification; ComponentLink3URL: http://www.ti.com/litv/pdf/mpds373
footprint TI-PWP28-5720X1950TP_N (SOP, 28-Leads, Body 9.7x4.4mm, Pitch 0.65mm, Thermal Pad 5.72 x 1.95mm, IPC Medium Density)
footprint TI-PWP28-5720X1950TP_L (SOP, 28-Leads, Body 9.7x4.4mm, Pitch 0.65mm, Thermal Pad 5.72 x 1.95mm, IPC High Density)
footprint TI-PWP28-5720X1950TP_M (SOP, 28-Leads, Body 9.7x4.4mm, Pitch 0.65mm, Thermal Pad 5.72 x 1.95mm, IPC Low Density)
pins: 1 GND (power) "Ground", 2 BLANK (in) "Blank all outputs. When BLANK is high, all OUTn outputs are forced OFF. GS counter is also reset. When BLANK is low, OUTn are controlled by the grayscale PWM control.", 3 XLAT (in) "Level triggered latch signal. When XLAT is high, the TLC59401 writes data from the input shift register to either GS register (MODE is low) or DC register (MODE is high). When XLAT is low, the data in the GS or DC registers (See Datasheet)", 4 SCLK (in) "Serial data shift clock", 5 SIN (in) "Serial data input", 6 MODE (in) "Input mode-change pin. When MODE = GND, the device is in GS mode. When MODE = VCC, the device is in DC mode.", 7 OUT0 (out) "Constant-current output. Multiple outputs can be configured in parallel to increase the constant-current capability. Different voltages can be applied to each output.", 8 OUT1 (out) "Constant-current output", 9 OUT2 (out) "Constant-current output", 10 OUT3 (out) "Constant-current output", 11 OUT4 (out) "Constant-current output", 12 OUT5 (out) "Constant-current output", 13 OUT6 (out) "Constant-current output", 14 OUT7 (out) "Constant-current output", 15 OUT8 (out) "Constant-current output", 16 OUT9 (out) "Constant-current output", 17 OUT10 (out) "Constant-current output", 18 OUT11 (out) "Constant-current output", 19 OUT12 (out) "Constant-current output", 20 OUT13 (out) "Constant-current output", 21 OUT14 (out) "Constant-current output", 22 OUT15 (out) "Constant-current output", 23 XERR (hiz) "Error output. XERR is an open-drain terminal. XERR goes low when LOD or TEF is detected.", 24 SOUT (out) "Serial data output", 25 GSCLK (in) "Reference clock for grayscale PWM control", 26 TEST (in) "Test pin: TEST must be connected to VCC", 27 IREF (in) "Reference current terminal. The maximum current for the outputs OUT0-OUT15 is set with a resistor from IREF to GND. Any capacitance does not need to be connected between IREF and GND.", 28 VCC (power) "Power-supply voltage", 29 EP

## TLC5945PWPG4
designator U?
16-Channel LED Driver with DOT Correction & Grayscale PWM Control & No Delay, 3 to 5.5 V, -40 to 85 degC, 28-pin SOP (PWP28), Green (RoHS & no Sb/Br); Manufacturer: Texas Instruments; PartNumber: TLC5945PWPG4; Rating: Catalog; SubFamily: Signage/Linear; Vin(Max)(V): 5.5; Vin(Min)(V): 3; DatasheetVersion: SLVS755; PackageVersion: 4073225-6/I; PackageReference: PWP28-5720X1950TP; PackageDescription: 28-Pin Plastic Small Outline, Body 4.4 x 9.7 mm, Pitch 0.65 mm; Supplier 1: Digi-Key; Supplier Part Number 1: TLC5945PWPG4-ND; Supplier 2: Mouser; Supplier Part Number 2: 595-TLC5945PWPG4; Eco-Plan: Green (RoHS & no Sb/Br); Mounting Technology: Surface Mount; Code_JEDEC: MO-153; ComponentLink1Description: Manufacturer URL; ComponentLink1URL: http://www.ti.com/; ComponentLink2Description: Datasheet; ComponentLink2URL: http://www.ti.com/general/docs/lit/getliterature.tsp?genericPartNumber=TLC5945&fileType=pdf; ComponentLink3Description: Package Specification; ComponentLink3URL: http://www.ti.com/litv/pdf/mpds373
footprint TI-PWP28-5720X1950TP_N (SOP, 28-Leads, Body 9.7x4.4mm, Pitch 0.65mm, Thermal Pad 5.72 x 1.95mm, IPC Medium Density)
footprint TI-PWP28-5720X1950TP_L (SOP, 28-Leads, Body 9.7x4.4mm, Pitch 0.65mm, Thermal Pad 5.72 x 1.95mm, IPC High Density)
footprint TI-PWP28-5720X1950TP_M (SOP, 28-Leads, Body 9.7x4.4mm, Pitch 0.65mm, Thermal Pad 5.72 x 1.95mm, IPC Low Density)
pins: 1 GND (power) "Ground", 2 BLANK (in) "Blank all outputs. When BLANK is high, all OUTn outputs are forced OFF. GS counter is also reset. When BLANK is low, OUTn are controlled by the grayscale PWM control.", 3 XLAT (in) "Level triggered latch signal. When XLAT is high, the TLC59401 writes data from the input shift register to either GS register (MODE is low) or DC register (MODE is high). When XLAT is low, the data in the GS or DC registers (See Datasheet)", 4 SCLK (in) "Serial data shift clock", 5 SIN (in) "Serial data input", 6 MODE (in) "Input mode-change pin. When MODE = GND, the device is in GS mode. When MODE = VCC, the device is in DC mode.", 7 OUT0 (out) "Constant-current output. Multiple outputs can be configured in parallel to increase the constant-current capability. Different voltages can be applied to each output.", 8 OUT1 (out) "Constant-current output", 9 OUT2 (out) "Constant-current output", 10 OUT3 (out) "Constant-current output", 11 OUT4 (out) "Constant-current output", 12 OUT5 (out) "Constant-current output", 13 OUT6 (out) "Constant-current output", 14 OUT7 (out) "Constant-current output", 15 OUT8 (out) "Constant-current output", 16 OUT9 (out) "Constant-current output", 17 OUT10 (out) "Constant-current output", 18 OUT11 (out) "Constant-current output", 19 OUT12 (out) "Constant-current output", 20 OUT13 (out) "Constant-current output", 21 OUT14 (out) "Constant-current output", 22 OUT15 (out) "Constant-current output", 23 XERR (hiz) "Error output. XERR is an open-drain terminal. XERR goes low when LOD or TEF is detected.", 24 SOUT (out) "Serial data output", 25 GSCLK (in) "Reference clock for grayscale PWM control", 26 TEST (in) "Test pin: TEST must be connected to VCC", 27 IREF (in) "Reference current terminal. The maximum current for the outputs OUT0-OUT15 is set with a resistor from IREF to GND. Any capacitance does not need to be connected between IREF and GND.", 28 VCC (power) "Power-supply voltage", 29 EP

## TLC5945PWPR
designator U?
16-Channel LED Driver with DOT Correction & Grayscale PWM Control & No Delay, 3 to 5.5 V, -40 to 85 degC, 28-pin SOP (PWP28), Green (RoHS & no Sb/Br); Manufacturer: Texas Instruments; PartNumber: TLC5945PWPR; Rating: Catalog; SubFamily: Signage/Linear; Vin(Max)(V): 5.5; Vin(Min)(V): 3; DatasheetVersion: SLVS755; PackageVersion: 4073225-6/I; PackageReference: PWP28-5720X1950TP; PackageDescription: 28-Pin Plastic Small Outline, Body 4.4 x 9.7 mm, Pitch 0.65 mm; Supplier 1: Digi-Key; Supplier Part Number 1: 296-21862-2-ND; Supplier 2: Digi-Key; Supplier Part Number 2: 296-21862-1-ND; Supplier 3: Digi-Key; Supplier Part Number 3: 296-21862-6-ND; Supplier 4: Newark; Supplier Part Number 4: 41M5432; Supplier 5: Mouser; Supplier Part Number 5: 595-TLC5945PWPR; Eco-Plan: Green (RoHS & no Sb/Br); Mounting Technology: Surface Mount; Code_JEDEC: MO-153; ComponentLink1Description: Manufacturer URL; ComponentLink1URL: http://www.ti.com/; ComponentLink2Description: Datasheet; ComponentLink2URL: http://www.ti.com/general/docs/lit/getliterature.tsp?genericPartNumber=TLC5945&fileType=pdf; ComponentLink3Description: Package Specification; ComponentLink3URL: http://www.ti.com/litv/pdf/mpds373
footprint TI-PWP28-5720X1950TP_N (SOP, 28-Leads, Body 9.7x4.4mm, Pitch 0.65mm, Thermal Pad 5.72 x 1.95mm, IPC Medium Density)
footprint TI-PWP28-5720X1950TP_L (SOP, 28-Leads, Body 9.7x4.4mm, Pitch 0.65mm, Thermal Pad 5.72 x 1.95mm, IPC High Density)
footprint TI-PWP28-5720X1950TP_M (SOP, 28-Leads, Body 9.7x4.4mm, Pitch 0.65mm, Thermal Pad 5.72 x 1.95mm, IPC Low Density)
pins: 1 GND (power) "Ground", 2 BLANK (in) "Blank all outputs. When BLANK is high, all OUTn outputs are forced OFF. GS counter is also reset. When BLANK is low, OUTn are controlled by the grayscale PWM control.", 3 XLAT (in) "Level triggered latch signal. When XLAT is high, the TLC59401 writes data from the input shift register to either GS register (MODE is low) or DC register (MODE is high). When XLAT is low, the data in the GS or DC registers (See Datasheet)", 4 SCLK (in) "Serial data shift clock", 5 SIN (in) "Serial data input", 6 MODE (in) "Input mode-change pin. When MODE = GND, the device is in GS mode. When MODE = VCC, the device is in DC mode.", 7 OUT0 (out) "Constant-current output. Multiple outputs can be configured in parallel to increase the constant-current capability. Different voltages can be applied to each output.", 8 OUT1 (out) "Constant-current output", 9 OUT2 (out) "Constant-current output", 10 OUT3 (out) "Constant-current output", 11 OUT4 (out) "Constant-current output", 12 OUT5 (out) "Constant-current output", 13 OUT6 (out) "Constant-current output", 14 OUT7 (out) "Constant-current output", 15 OUT8 (out) "Constant-current output", 16 OUT9 (out) "Constant-current output", 17 OUT10 (out) "Constant-current output", 18 OUT11 (out) "Constant-current output", 19 OUT12 (out) "Constant-current output", 20 OUT13 (out) "Constant-current output", 21 OUT14 (out) "Constant-current output", 22 OUT15 (out) "Constant-current output", 23 XERR (hiz) "Error output. XERR is an open-drain terminal. XERR goes low when LOD or TEF is detected.", 24 SOUT (out) "Serial data output", 25 GSCLK (in) "Reference clock for grayscale PWM control", 26 TEST (in) "Test pin: TEST must be connected to VCC", 27 IREF (in) "Reference current terminal. The maximum current for the outputs OUT0-OUT15 is set with a resistor from IREF to GND. Any capacitance does not need to be connected between IREF and GND.", 28 VCC (power) "Power-supply voltage", 29 EP